# EAGLE library part PIC32MX220F032D (library _MyComponents)
Microchip 32 bit PIC32MX220F032D
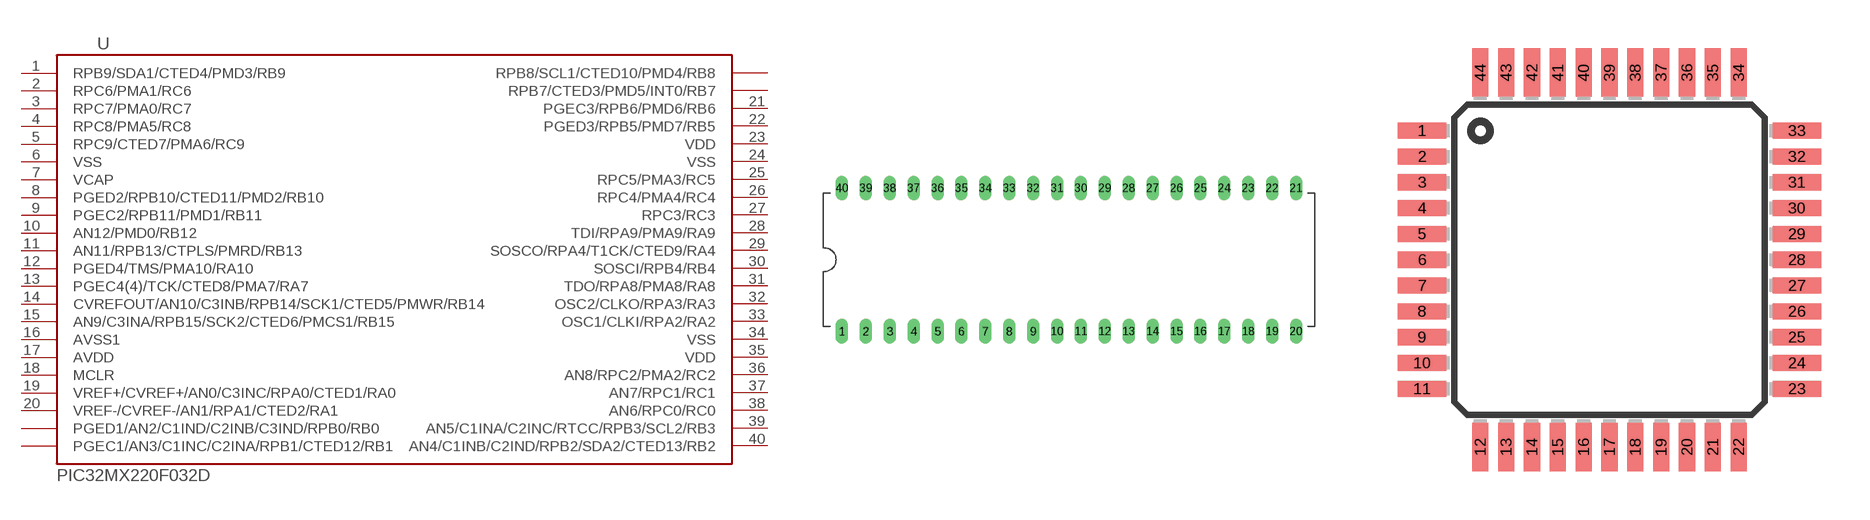
[diagram p1: symbol with the pads of DIL40; footprints DIL40, TQFP44]

Designator prefix -

## PIC32MX220F032DDIL  [DIL40]
1  RPB9/SDA1/CTED4/PMD3/RB9
2  RPC6/PMA1/RC6
3  RPC7/PMA0/RC7
4  RPC8/PMA5/RC8
5  RPC9/CTED7/PMA6/RC9
6  VSS
7  VCAP
8  PGED2/RPB10/CTED11/PMD2/RB10
9  PGEC2/RPB11/PMD1/RB11
10  AN12/PMD0/RB12
11  AN11/RPB13/CTPLS/PMRD/RB13
12  PGED4/TMS/PMA10/RA10
13  PGEC4(4)/TCK/CTED8/PMA7/RA7
14  CVREFOUT/AN10/C3INB/RPB14/SCK1/CTED5/PMWR/RB14
15  AN9/C3INA/RPB15/SCK2/CTED6/PMCS1/RB15
16  AVSS1
17  AVDD
18  MCLR
19  VREF+/CVREF+/AN0/C3INC/RPA0/CTED1/RA0
20  VREF-/CVREF-/AN1/RPA1/CTED2/RA1
21  PGEC3/RPB6/PMD6/RB6
22  PGED3/RPB5/PMD7/RB5
23  VDD
24  VSS
25  RPC5/PMA3/RC5
26  RPC4/PMA4/RC4
27  RPC3/RC3
28  TDI/RPA9/PMA9/RA9
29  SOSCO/RPA4/T1CK/CTED9/RA4
30  SOSCI/RPB4/RB4
31  TDO/RPA8/PMA8/RA8
32  OSC2/CLKO/RPA3/RA3
33  OSC1/CLKI/RPA2/RA2
34  VSS
35  VDD
36  AN8/RPC2/PMA2/RC2
37  AN7/RPC1/RC1
38  AN6/RPC0/RC0
39  AN5/C1INA/C2INC/RTCC/RPB3/SCL2/RB3
40  AN4/C1INB/C2IND/RPB2/SDA2/CTED13/RB2

## PIC32MX220F032D  [TQFP44]
1  RPB9/SDA1/CTED4/PMD3/RB9
2  RPC6/PMA1/RC6
3  RPC7/PMA0/RC7
4  RPC8/PMA5/RC8
5  RPC9/CTED7/PMA6/RC9
6  VSS
7  VCAP
8  PGED2/RPB10/CTED11/PMD2/RB10
9  PGEC2/RPB11/PMD1/RB11
10  AN12/PMD0/RB12
11  AN11/RPB13/CTPLS/PMRD/RB13
12  PGED4/TMS/PMA10/RA10
13  PGEC4(4)/TCK/CTED8/PMA7/RA7
14  CVREFOUT/AN10/C3INB/RPB14/SCK1/CTED5/PMWR/RB14
15  AN9/C3INA/RPB15/SCK2/CTED6/PMCS1/RB15
16  AVSS1
17  AVDD
18  MCLR
19  VREF+/CVREF+/AN0/C3INC/RPA0/CTED1/RA0
20  VREF-/CVREF-/AN1/RPA1/CTED2/RA1
21  PGED1/AN2/C1IND/C2INB/C3IND/RPB0/RB0
22  PGEC1/AN3/C1INC/C2INA/RPB1/CTED12/RB1
23  AN4/C1INB/C2IND/RPB2/SDA2/CTED13/RB2
24  AN5/C1INA/C2INC/RTCC/RPB3/SCL2/RB3
25  AN6/RPC0/RC0
26  AN7/RPC1/RC1
27  AN8/RPC2/PMA2/RC2
28  VDD
29  VSS
30  OSC1/CLKI/RPA2/RA2
31  OSC2/CLKO/RPA3/RA3
32  TDO/RPA8/PMA8/RA8
33  SOSCI/RPB4/RB4
34  SOSCO/RPA4/T1CK/CTED9/RA4
35  TDI/RPA9/PMA9/RA9
36  RPC3/RC3
37  RPC4/PMA4/RC4
38  RPC5/PMA3/RC5
39  VSS
40  VDD
41  PGED3/RPB5/PMD7/RB5
42  PGEC3/RPB6/PMD6/RB6
43  RPB7/CTED3/PMD5/INT0/RB7
44  RPB8/SCL1/CTED10/PMD4/RB8

## Footprint DIL40 (pad centres in mm)
Dual In Line Package: 40-pin PDIP
drill 0.8 long: 1 -24.13,-7.62; 2 -21.59,-7.62; 3 -19.05,-7.62; 4 -16.51,-7.62; 5 -13.97,-7.62; 6 -11.43,-7.62; 7 -8.89,-7.62; 8 -6.35,-7.62; 9 -3.81,-7.62; 10 -1.27,-7.62; 11 1.27,-7.62; 12 3.81,-7.62; 13 6.35,-7.62; 14 8.89,-7.62; 15 11.43,-7.62; 16 13.97,-7.62; 17 16.51,-7.62; 18 19.05,-7.62; 19 21.59,-7.62; 20 24.13,-7.62; 21 24.13,7.62; 22 21.59,7.62; 23 19.05,7.62; 24 16.51,7.62; 25 13.97,7.62; 26 11.43,7.62; 27 8.89,7.62; 28 6.35,7.62; 29 3.81,7.62; 30 1.27,7.62; 31 -1.27,7.62; 32 -3.81,7.62; 33 -6.35,7.62; 34 -8.89,7.62; 35 -11.43,7.62; 36 -13.97,7.62; 37 -16.51,7.62; 38 -19.05,7.62; 39 -21.59,7.62; 40 -24.13,7.62

## Footprint TQFP44 (pad centres in mm)
smd 1.5 x 0.5: 1 -5.8,4; 2 -5.8,3.2; 3 -5.8,2.4; 4 -5.8,1.6; 5 -5.8,0.8; 6 -5.8,0; 7 -5.8,-0.8; 8 -5.8,-1.6; 9 -5.8,-2.4; 10 -5.8,-3.2; 11 -5.8,-4; 23 5.8,-4; 24 5.8,-3.2; 25 5.8,-2.4; 26 5.8,-1.6; 27 5.8,-0.8; 28 5.8,0; 29 5.8,0.8; 30 5.8,1.6; 31 5.8,2.4; 32 5.8,3.2; 33 5.8,4
smd 0.5 x 1.5: 12 -4,-5.8; 13 -3.2,-5.8; 14 -2.4,-5.8; 15 -1.6,-5.8; 16 -0.8,-5.8; 17 0,-5.8; 18 0.8,-5.8; 19 1.6,-5.8; 20 2.4,-5.8; 21 3.2,-5.8; 22 4,-5.8; 34 4,5.8; 35 3.2,5.8; 36 2.4,5.8; 37 1.6,5.8; 38 0.8,5.8; 39 0,5.8; 40 -0.8,5.8; 41 -1.6,5.8; 42 -2.4,5.8; 43 -3.2,5.8; 44 -4,5.8